# Altium schematic symbol library 75757-4160.SchLib: 1 symbol
Pins are listed as number, name and electrical type; pins without a type are passive.

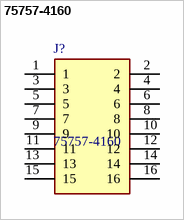
[diagram p0: symbol 75757-4160]

## 75757-4160
designator J?
Automotive Connectors; Manufacturer_Name: Molex; Geometry.Height: 21.53mm; Mouser Part Number: *; Mouser Price/Stock: *; Manufacturer_Part_Number: 75757-4160; Datasheet Link: https://www.molex.com/pdm_docs/sd/757574160_sd.pdf
footprint 757574160
pins: 1, 2, 3, 4, 5, 6, 7, 8, 9, 10, 11, 12, 13, 14, 15, 16